# EAGLE library part PINHD-1X15 (library wsn)
PIN HEADER
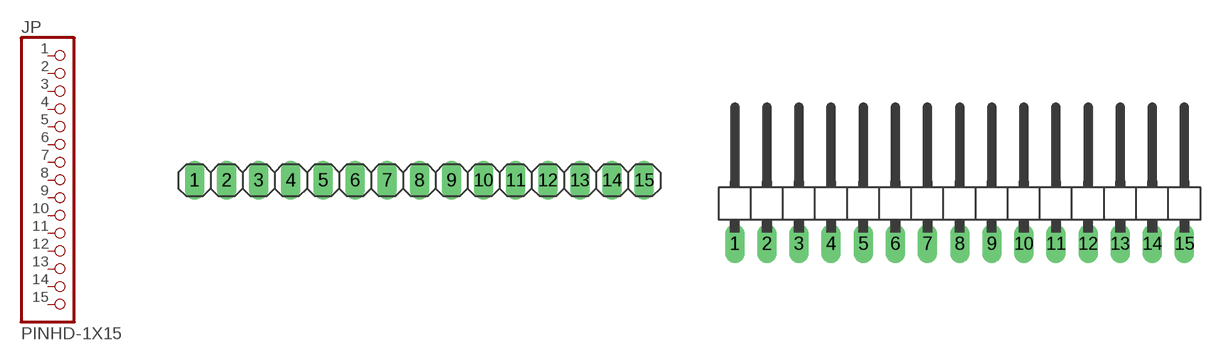
[diagram p25: symbol with the pads of 1X15; footprints 1X15, 1X15/90]

Designator prefix JP

## PINHD-1X15  [1X15]
1  1  pas
2  2  pas
3  3  pas
4  4  pas
5  5  pas
6  6  pas
7  7  pas
8  8  pas
9  9  pas
10  10  pas
11  11  pas
12  12  pas
13  13  pas
14  14  pas
15  15  pas

## PINHD-1X15/90  [1X15/90]
Pads as for 1X15

## PINHD-1X151X15_SMT  [1X15_SMT]
Pads as for 1X15

## Footprint 1X15 (pad centres in mm)
PIN HEADER
drill 1.016 long: 1 -17.78,0; 2 -15.24,0; 3 -12.7,0; 4 -10.16,0; 5 -7.62,0; 6 -5.08,0; 7 -2.54,0; 8 0,0; 9 2.54,0; 10 5.08,0; 11 7.62,0; 12 10.16,0; 13 12.7,0; 14 15.24,0; 15 17.78,0

## Footprint 1X15/90 (pad centres in mm)
PIN HEADER
drill 1.016 long: 1 -17.78,-3.81; 2 -15.24,-3.81; 3 -12.7,-3.81; 4 -10.16,-3.81; 5 -7.62,-3.81; 6 -5.08,-3.81; 7 -2.54,-3.81; 8 0,-3.81; 9 2.54,-3.81; 10 5.08,-3.81; 11 7.62,-3.81; 12 10.16,-3.81; 13 12.7,-3.81; 14 15.24,-3.81; 15 17.78,-3.81

## Footprint 1X15_SMT (pad centres in mm)
smd 1 x 2.5: 1 -17.78,1.52; 2 -15.24,-1.52; 3 -12.7,1.52; 4 -10.16,-1.52; 5 -7.62,1.52; 6 -5.08,-1.52; 7 -2.54,1.52; 8 0,-1.52; 9 2.54,1.52; 10 5.08,-1.52; 11 7.62,1.52; 12 10.16,-1.52; 13 12.7,1.52; 14 15.24,-1.52; 15 17.78,1.52